# Altium footprint library EVQp7.PcbLib: 1 footprints
Each footprint in its own frame and in the unit in brackets; x right, y up, seen from the top. Pads: shape width x height; smd on the part's side, far side on the other; paste and mask are expansions set on the pad; w line width, h text height; cw(c..) or ccw(c..) is an arc to the next point about the centre after c.
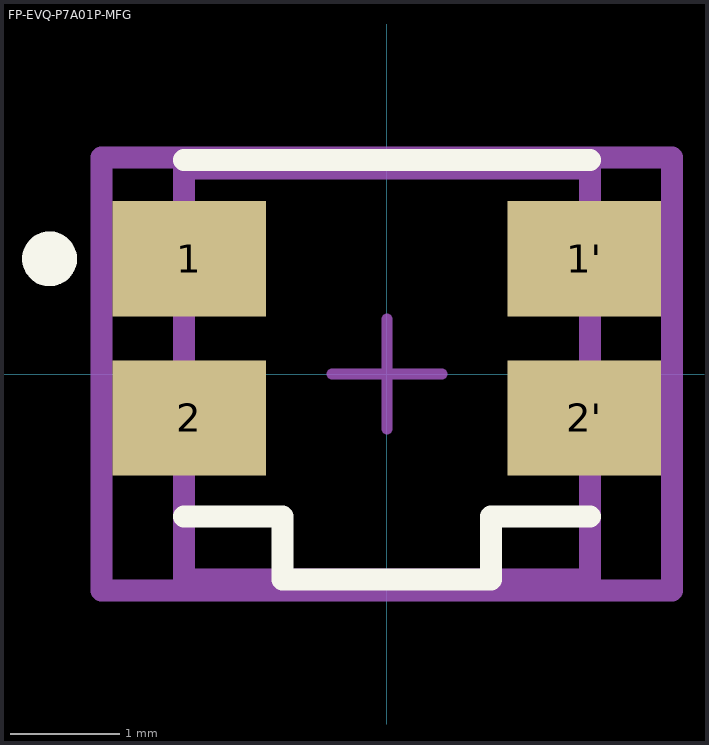
[diagram p0: the footprint, top view; thin cyan lines are the x and y axes]

## FP-EVQ-P7A01P-MFG [mm]
pads (4):
  rect 1.4x1.05 smd paste+0 mask+0: 1(-1.8,1.05) 1'(1.8,1.05) 2(-1.8,-0.4) 2'(1.8,-0.4)
Top Overlay:
  circle w0.25: c-3.075,1.05 r0.125
  lines w0.2: -1.85,-1.3 -0.95,-1.3 -0.95,-1.875 0.95,-1.875 0.95,-1.3 1.85,-1.3 ; -1.85,1.95 1.85,1.95
Mechanical 5:
  lines w0.2: -2.6,-1.975 2.6,-1.975 2.6,1.975 -2.6,1.975 -2.6,-1.975
  text ".Designator" at 0,0.188 h1
Mechanical 13:
  lines w0.2: -1.85,-1.875 1.85,-1.875 1.85,1.875 -1.85,1.875 -1.85,-1.875
Mechanical 15:
  lines w0.2: -2.6,-1.975 2.6,-1.975 2.6,1.975 -2.6,1.975 -2.6,-1.975
Mechanical 16:
  lines w0.1: -0.5,0 0.5,0 ; 0,-0.5 0,0.5
3D body "Switch_Panasonic_EVQ-P7A01P_eec.STEP": height 0.25, standoff 0, extent -2.6,-1.975 2.6,1.975